# Altium integrated library ST Power Mgt Voltage Regulator.IntLib: 805 symbols (part 13 of 13)
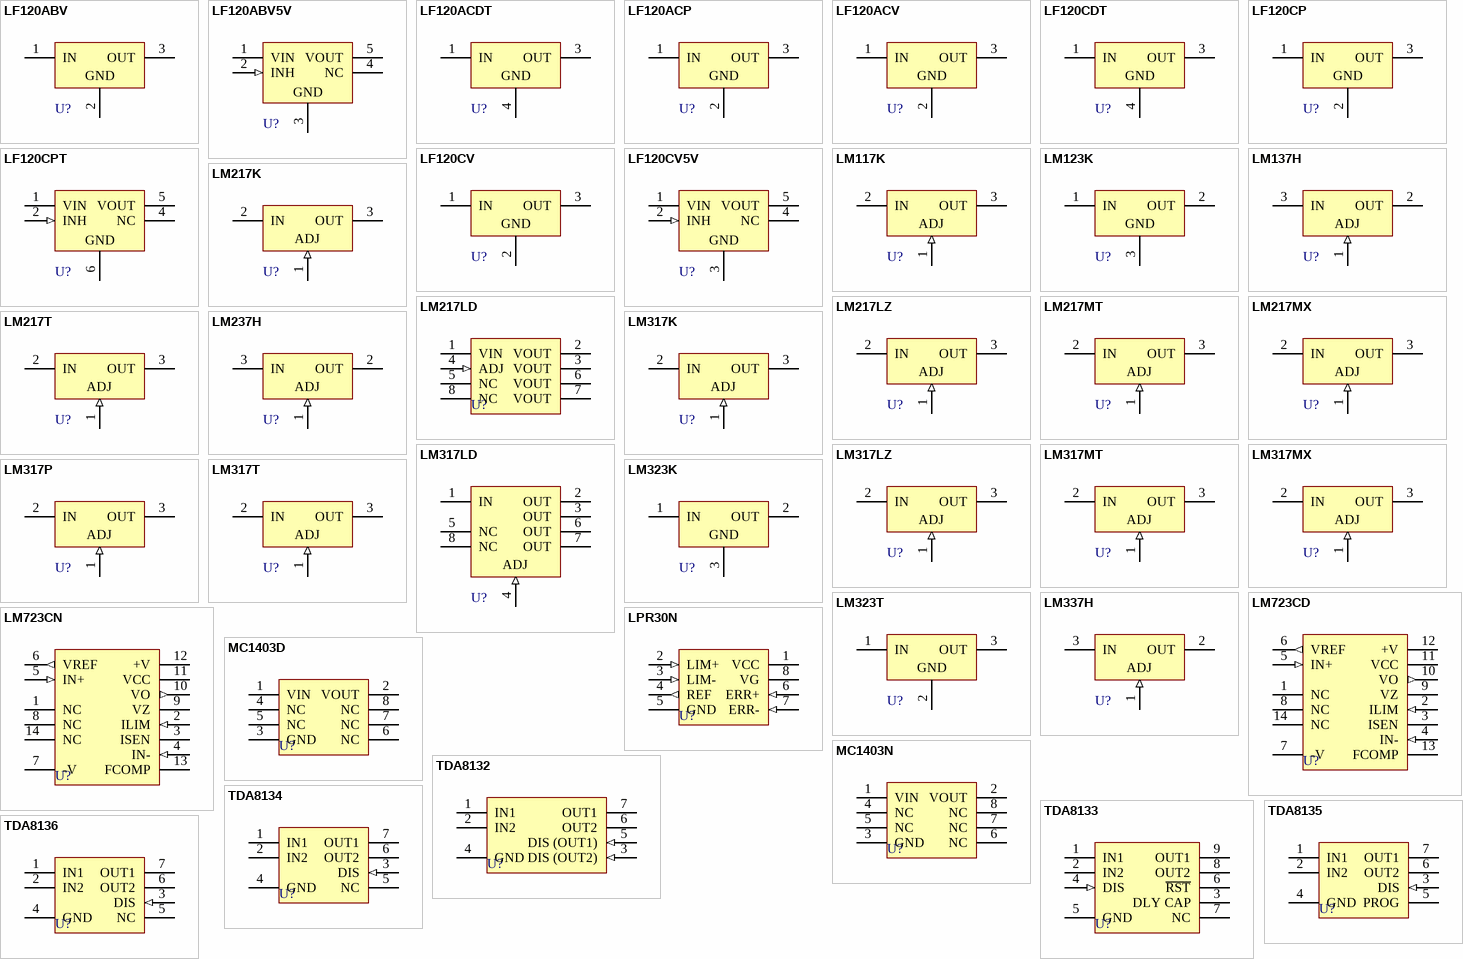
[diagram p32: symbols LF120ABV to TDA8136]

## LM317LD
designator U?
Low-Current 1.2V to 37V Voltage Regulator; Published: 24-Aug-2001; LatestRevisionDate: 13-Apr-2006; LatestRevisionNote: IPC-7351 Footprint Added.; DatasheetVersion: Apr-1994; PackageVersion: Dec-2002; PackageReference: SO8; Publisher: Altium Limited; PackageDescription: 8-Pin Small Outline Integrated Circuit 1.27 mm Pitch; Code_JEDEC: MS-012-AA; Code_IPC: SOIC127P600-8; ComponentLink1Description: Manufacturer Link; ComponentLink1URL: http://www.st.com/; ComponentLink2Description: Datasheet; ComponentLink2URL: http://www.st.com/stonline/products/literature/ds/2168/lm217l.pdf
footprint SO8_N (SOIC, 8-Leads, Body 4.9x3.9mm, Pitch 1.27mm, IPC Medium Density)
footprint SO8_L (SOIC, 8-Leads, Body 4.9x3.9mm, Pitch 1.27mm, IPC High Density)
footprint SO8_M (SOIC, 8-Leads, Body 4.9x3.9mm, Pitch 1.27mm, IPC Low Density)
3D model SO8 (8-Pin Small Outline Integrated Circuit 1.27 mm Pitch)
pins: 1 IN (power), 2 OUT (power), 3 OUT (power), 4 ADJ (in), 5 NC, 6 OUT (power), 7 OUT (power), 8 NC

## LM317LZ
designator U?
Low-Current 1.2V to 37V Voltage Regulator; Published: 24-Aug-2001; LatestRevisionDate: 17-Jul-2002; LatestRevisionNote: Re-released for DXP Platform.; DatasheetVersion: Apr-1994; PackageReference: TO92-132; Publisher: Altium Limited; PackageDescription: TO, Flat Index; 3 In-Line, Axial Leads; Body Dia. 4.8mm; Leads 0.51 x 0.51 mm (max); ComponentLink1Description: Manufacturer Link; ComponentLink1URL: http://www.st.com/; ComponentLink2Description: Datasheet; ComponentLink2URL: http://www.st.com/stonline/products/literature/ds/2168/lm217l.pdf
footprint TO92-132 (TO, Flat Index; 3 In-Line, Axial Leads; Body Dia. 4.8mm; Leads 0.51 x 0.51 mm (max))
pins: 1 ADJ (in), 2 IN (power), 3 OUT (power)

## LM317MT
designator U?
Medium Current 1.2V to 37V Adjustable Voltage Regulator; Note: Tab is connected to pin 3 (OUT).; Published: 24-Aug-2001; LatestRevisionDate: 17-Jul-2002; LatestRevisionNote: Re-released for DXP Platform.; DatasheetVersion: Sep-1997; PackageReference: TO220V; Publisher: Altium Limited; PackageDescription: TO, Thru-Hole, Vertical, Heatsink Mounted; 3 In-Line Leads; Pitch 2.54 mm; Pin sequence 1, 3, 2; ComponentLink1Description: Manufacturer Link; ComponentLink1URL: http://www.st.com/; ComponentLink2Description: Datasheet; ComponentLink2URL: http://www.st.com/stonline/products/literature/ds/2577/lm217m.pdf
footprint TO220V (TO, Thru-Hole, Vertical, Heatsink Mounted; 3 In-Line Leads; Pitch 2.54 mm; Pin sequence 1, 3, 2)
pins: 1 ADJ (in), 2 IN (power), 3 OUT (power)

## LM317MX
designator U?
Medium Current 1.2V to 37V Adjustable Voltage Regulator; Published: 24-Aug-2001; LatestRevisionDate: 17-Jul-2002; LatestRevisionNote: Re-released for DXP Platform.; DatasheetVersion: Sep-1997; PackageReference: SOT82C; Publisher: Altium Limited; PackageDescription: SIP; 3 Leads; Body 10.9 x 7.6 x 2.6 mm (typ); Pitch 2.2 mm; ComponentLink1Description: Manufacturer Link; ComponentLink1URL: http://www.st.com/; ComponentLink2Description: Datasheet; ComponentLink2URL: http://www.st.com/stonline/products/literature/ds/2577/lm217m.pdf
footprint SOT82C (SIP; 3 Leads; Body 10.9 x 7.6 x 2.6 mm (typ); Pitch 2.2 mm)
pins: 1 ADJ (in), 2 IN (power), 3 OUT (power)

## LM317P
designator U?
1.2V to 37V Voltage Regulator; Note: Tab is connected to pin 3 (OUT).; Published: 24-Aug-2001; LatestRevisionDate: 17-Jul-2002; LatestRevisionNote: Re-released for DXP Platform.; DatasheetVersion: Nov-1999; PackageVersion: Jul-1998; PackageReference: ISOWATT220AB; Publisher: Altium Limited; PackageDescription: TO, Thru-Hole, Vertical, Heatsink Mounted; 3 In-Line Leads; Pitch 2.54 mm; Pin sequence 1, 3, 2; ComponentLink1Description: Manufacturer Link; ComponentLink1URL: http://www.st.com/; ComponentLink2Description: Datasheet; ComponentLink2URL: http://www.st.com/stonline/products/literature/ds/2154/lm117.pdf
footprint ISOWATT220AB (TO, Thru-Hole, Vertical, Heatsink Mounted; 3 In-Line Leads; Pitch 2.54 mm; Pin sequence 1, 3, 2)
pins: 1 ADJ (in), 2 IN (power), 3 OUT (power)

## LM317T
designator U?
1.2V to 37V Voltage Regulator; Note: Tab is connected to pin 3 (OUT).; Published: 24-Aug-2001; LatestRevisionDate: 17-Jul-2002; LatestRevisionNote: Re-released for DXP Platform.; DatasheetVersion: Nov-1999; PackageVersion: Jun-1998; PackageReference: TO220ABN; Publisher: Altium Limited; PackageDescription: TO, Thru-Hole, Vertical, Heatsink Mounted; 3 In-Line Leads; Pitch 2.54 mm; Pin sequence 1, 3, 2; ComponentLink1Description: Manufacturer Link; ComponentLink1URL: http://www.st.com/; ComponentLink2Description: Datasheet; ComponentLink2URL: http://www.st.com/stonline/products/literature/ds/2154/lm117.pdf
footprint TO220ABN (TO, Thru-Hole, Vertical, Heatsink Mounted; 3 In-Line Leads; Pitch 2.54 mm; Pin sequence 1, 3, 2)
pins: 1 ADJ (in), 2 IN (power), 3 OUT (power)

## LM323K
designator U?
Three Terminal 3A-5V Positive Voltage Regulator; Note: Case is GND.; Published: 24-Aug-2001; LatestRevisionDate: 17-Jul-2002; LatestRevisionNote: Re-released for DXP Platform.; DatasheetVersion: Mar-1993; PackageReference: TO-3; Publisher: Altium Limited; PackageDescription: Oval Flange Mount with (2) Offset Leads; Pin Spacing 10.92 mm; Lead Dia. 1.15 mm (max); ComponentLink1Description: Manufacturer Link; ComponentLink1URL: http://www.st.com/
footprint TO-3 (Oval Flange Mount with (2) Offset Leads; Pin Spacing 10.92 mm; Lead Dia. 1.15 mm (max))
pins: 1 IN (power), 2 OUT (power), 3 GND (power)

## LM323T
designator U?
Three Terminal 3A-5V Positive Voltage Regulator; Published: 24-Aug-2001; LatestRevisionDate: 17-Jul-2002; LatestRevisionNote: Re-released for DXP Platform.; DatasheetVersion: Mar-1993; PackageVersion: Jun-1998; PackageReference: TO220ABN; Publisher: Altium Limited; PackageDescription: TO, Thru-Hole, Vertical, Heatsink Mounted; 3 In-Line Leads; Pitch 2.54 mm; Pin sequence 1, 3, 2; ComponentLink1Description: Manufacturer Link; ComponentLink1URL: http://www.st.com/
footprint TO220ABN (TO, Thru-Hole, Vertical, Heatsink Mounted; 3 In-Line Leads; Pitch 2.54 mm; Pin sequence 1, 3, 2)
pins: 1 IN (power), 2 GND (power), 3 OUT (power)

## LM337H
designator U?
Three-Terminal Adjustable Negative Voltage Regulator; Published: 24-Aug-2001; LatestRevisionDate: 17-Jul-2002; LatestRevisionNote: Re-released for DXP Platform.; DatasheetVersion: Mar-1993; PackageReference: TO-39; Publisher: Altium Limited; PackageDescription: Can; 3 Leads; Pin Circle Dia. 5.08 mm; Lead Dia. 0.49 mm (max); ComponentLink1Description: Manufacturer Link; ComponentLink1URL: http://www.st.com/; ComponentLink2Description: Datasheet; ComponentLink2URL: http://www.st.com/stonline/products/literature/ds/2167/lm137.pdf
footprint TO-39 (Can; 3 Leads; Pin Circle Dia. 5.08 mm; Lead Dia. 0.49 mm (max))
pins: 1 ADJ (in), 2 OUT (power), 3 IN (power)

## LM723CD
designator U?
High-Precision Voltage Regulator; Published: 24-Aug-2001; LatestRevisionDate: 13-Apr-2006; LatestRevisionNote: IPC-7351 Footprint Added.; DatasheetVersion: Sep-1998; PackageVersion: Sep-1998; PackageReference: SO14; Publisher: Altium Limited; PackageDescription: 14-Pin Small Outline Integrated Circuit 1.27 mm Pitch; Code_IPC: SOIC127P600-14; ComponentLink1Description: Manufacturer Link; ComponentLink1URL: http://www.st.com/; ComponentLink2Description: Datasheet; ComponentLink2URL: http://www.st.com/stonline/products/literature/ds/4553/lm723.pdf
footprint SO14_N (SOIC, 14-Leads, Body 8.7x3.9mm, Pitch 1.27mm, IPC Medium Density)
footprint SO14_L (SOIC, 14-Leads, Body 8.7x3.9mm, Pitch 1.27mm, IPC High Density)
footprint SO14_M (SOIC, 14-Leads, Body 8.7x3.9mm, Pitch 1.27mm, IPC Low Density)
3D model SO14 (14-Pin Small Outline Integrated Circuit 1.27 mm Pitch)
pins: 1 NC, 2 ILIM (in), 3 ISEN, 4 IN- (in), 5 IN+ (in), 6 VREF (out), 7 -V (power), 8 NC, 9 VZ, 10 VO (out), 11 VCC (power), 12 +V (power), 13 FCOMP, 14 NC

## LM723CN
designator U?
High-Precision Voltage Regulator; Published: 24-Aug-2001; LatestRevisionDate: 06-Jun-2005; LatestRevisionNote: Stylized 3D Model Added.; DatasheetVersion: Sep-1998; PackageVersion: Jan-1997; PackageReference: DIP14; Publisher: Altium Limited; PackageDescription: DIP; 14 Leads; Row Spacing 7.62 mm; Pitch 2.54 mm; ComponentLink1Description: Manufacturer Link; ComponentLink1URL: http://www.st.com/; ComponentLink2Description: Datasheet; ComponentLink2URL: http://www.st.com/stonline/products/literature/ds/4553/lm723.pdf
footprint DIP14 (DIP; 14 Leads; Row Spacing 7.62 mm; Pitch 2.54 mm)
3D model DIP14 (DIP; 14 Leads; Row Spacing 7.62 mm; Pitch 2.54 mm)
pins: 1 NC, 2 ILIM (in), 3 ISEN, 4 IN- (in), 5 IN+ (in), 6 VREF (out), 7 -V (power), 8 NC, 9 VZ, 10 VO (out), 11 VCC (power), 12 +V (power), 13 FCOMP, 14 NC

## LPR30N
designator U?
Low Drop Voltage Regulator Drive for External N-Channel Power MOSFET; Published: 24-Aug-2001; LatestRevisionDate: 17-Jul-2002; LatestRevisionNote: Re-released for DXP Platform.; DatasheetVersion: Jun-1997; PackageVersion: Sep-1988; PackageReference: MDIP8; Publisher: Altium Limited; PackageDescription: DIP; 8 Leads; Row Spacing 7.62 mm; Pitch 2.54 mm; ComponentLink1Description: Manufacturer Link; ComponentLink1URL: http://www.st.com/
footprint MDIP8 (DIP; 8 Leads; Row Spacing 7.62 mm; Pitch 2.54 mm)
pins: 1 VCC (power), 2 LIM+ (in), 3 LIM- (in), 4 REF (out), 5 GND (power), 6 ERR+ (in), 7 ERR- (in), 8 VG (oc)

## MC1403D
designator U?
2.5V Precision Serial Voltage Refrence; Published: 24-Aug-2001; LatestRevisionDate: 13-Apr-2006; LatestRevisionNote: IPC-7351 Footprint Added.; DatasheetVersion: Oct-1997; PackageVersion: Dec-2002; PackageReference: SO8; Publisher: Altium Limited; PackageDescription: 8-Pin Small Outline Integrated Circuit 1.27 mm Pitch; Code_JEDEC: MS-012-AA; Code_IPC: SOIC127P600-8; ComponentLink1Description: Manufacturer Link; ComponentLink1URL: http://www.st.com/; ComponentLink2Description: Datasheet; ComponentLink2URL: http://www.st.com/stonline/products/literature/ds/4026/mc1403.pdf
footprint SO8_N (SOIC, 8-Leads, Body 4.9x3.9mm, Pitch 1.27mm, IPC Medium Density)
footprint SO8_L (SOIC, 8-Leads, Body 4.9x3.9mm, Pitch 1.27mm, IPC High Density)
footprint SO8_M (SOIC, 8-Leads, Body 4.9x3.9mm, Pitch 1.27mm, IPC Low Density)
3D model SO8 (8-Pin Small Outline Integrated Circuit 1.27 mm Pitch)
pins: 1 VIN (power), 2 VOUT (power), 3 GND (power), 4 NC, 5 NC, 6 NC, 7 NC, 8 NC

## MC1403N
designator U?
2.5V Precision Serial Voltage Refrence; Published: 24-Aug-2001; LatestRevisionDate: 06-Jun-2005; LatestRevisionNote: Stylized 3D Model Added.; DatasheetVersion: Oct-1997; PackageReference: DIP8; Publisher: Altium Limited; PackageDescription: DIP; 8 Leads; Row Spacing 7.62 mm; Pitch 2.54 mm; Code_JEDEC: MO-001-AN; ComponentLink1Description: Manufacturer Link; ComponentLink1URL: http://www.st.com/; ComponentLink2Description: Datasheet; ComponentLink2URL: http://www.st.com/stonline/products/literature/ds/4026/mc1403.pdf
footprint DIP8 (DIP; 8 Leads; Row Spacing 7.62 mm; Pitch 2.54 mm)
3D model DIP8 (DIP; 8 Leads; Row Spacing 7.62 mm; Pitch 2.54 mm)
pins: 1 VIN (power), 2 VOUT (power), 3 GND (power), 4 NC, 5 NC, 6 NC, 7 NC, 8 NC

## TDA8132
designator U?
5.1V + 12V Disable Voltage regulator; Note: Tab is connected to pin 4 (GND).; Published: 24-Aug-2001; LatestRevisionDate: 17-Jul-2002; LatestRevisionNote: Re-released for DXP Platform.; DatasheetVersion: Jan-1996; PackageVersion: Jan-1995; PackageReference: HEPTAWATT7; Publisher: Altium Limited; PackageDescription: TO, Thru-Hole, Vertical, Heatsink Mounted; 7 Bent Staggered Leads; Pitch 1.27 mm; ComponentLink1Description: Manufacturer Link; ComponentLink1URL: http://www.st.com/
footprint HEPTAWATT7 (TO, Thru-Hole, Vertical, Heatsink Mounted; 7 Bent Staggered Leads; Pitch 1.27 mm)
pins: 1 IN1 (power), 2 IN2 (power), 3 DIS (OUT2) (in), 4 GND (power), 5 DIS (OUT1) (in), 6 OUT2 (power), 7 OUT1 (power)

## TDA8133
designator U?
5.1V + 8V Regulator with Disable and Reset; Note: Tab is connected to pin 5 (GND).; Published: 24-Aug-2001; LatestRevisionDate: 17-Jul-2002; LatestRevisionNote: Re-released for DXP Platform.; DatasheetVersion: Mar-1994; PackageVersion: Oct-1997; PackageReference: SIP9; Publisher: Altium Limited; PackageDescription: TO, Thru-Hole, Vertical, Heatsink Mounted; 9 In-Line Leads; Pitch 2.54 mm; ComponentLink1Description: Manufacturer Link; ComponentLink1URL: http://www.st.com/; ComponentLink2Description: Datasheet; ComponentLink2URL: http://www.st.com/stonline/products/literature/ds/9784/tda8133.pdf
footprint SIP9 (TO, Thru-Hole, Vertical, Heatsink Mounted; 9 In-Line Leads; Pitch 2.54 mm)
pins: 1 IN1 (power), 2 IN2 (power), 3 DLY CAP, 4 DIS (in), 5 GND (power), 6 ~{RST} (oc), 7 NC, 8 OUT2 (power), 9 OUT1 (power)

## TDA8134
designator U?
5V +12V Regulator with Disable; Note: Tab is connected to pin 4 (GND).; Published: 24-Aug-2001; LatestRevisionDate: 17-Jul-2002; LatestRevisionNote: Re-released for DXP Platform.; DatasheetVersion: Sep-1993; PackageVersion: Jan-1995; PackageReference: HEPTAWATT7; Publisher: Altium Limited; PackageDescription: TO, Thru-Hole, Vertical, Heatsink Mounted; 7 Bent Staggered Leads; Pitch 1.27 mm; ComponentLink1Description: Manufacturer Link; ComponentLink1URL: http://www.st.com/
footprint HEPTAWATT7 (TO, Thru-Hole, Vertical, Heatsink Mounted; 7 Bent Staggered Leads; Pitch 1.27 mm)
pins: 1 IN1 (power), 2 IN2 (power), 3 DIS (in), 4 GND (power), 5 NC, 6 OUT2 (power), 7 OUT1 (power)

## TDA8135
designator U?
5V +Adjustable Voltage Regulator with Disable; Note: Tab is connected to pin 4 (GND).; Published: 24-Aug-2001; LatestRevisionDate: 17-Jul-2002; LatestRevisionNote: Re-released for DXP Platform.; DatasheetVersion: Sep-1993; PackageVersion: Jan-1995; PackageReference: HEPTAWATT7; Publisher: Altium Limited; PackageDescription: TO, Thru-Hole, Vertical, Heatsink Mounted; 7 Bent Staggered Leads; Pitch 1.27 mm; ComponentLink1Description: Manufacturer Link; ComponentLink1URL: http://www.st.com/
footprint HEPTAWATT7 (TO, Thru-Hole, Vertical, Heatsink Mounted; 7 Bent Staggered Leads; Pitch 1.27 mm)
pins: 1 IN1 (power), 2 IN2 (power), 3 DIS (in), 4 GND (power), 5 PROG, 6 OUT2 (power), 7 OUT1 (power)

## TDA8136
designator U?
Dual 12V Regulator with Disable; Note: Tab is connected to pin 4 (GND).; Published: 24-Aug-2001; LatestRevisionDate: 17-Jul-2002; LatestRevisionNote: Re-released for DXP Platform.; DatasheetVersion: Sep-1993; PackageVersion: Jan-1995; PackageReference: HEPTAWATT7; Publisher: Altium Limited; PackageDescription: TO, Thru-Hole, Vertical, Heatsink Mounted; 7 Bent Staggered Leads; Pitch 1.27 mm; ComponentLink1Description: Manufacturer Link; ComponentLink1URL: http://www.st.com/
footprint HEPTAWATT7 (TO, Thru-Hole, Vertical, Heatsink Mounted; 7 Bent Staggered Leads; Pitch 1.27 mm)
pins: 1 IN1 (power), 2 IN2 (power), 3 DIS (in), 4 GND (power), 5 NC, 6 OUT2 (power), 7 OUT1 (power)

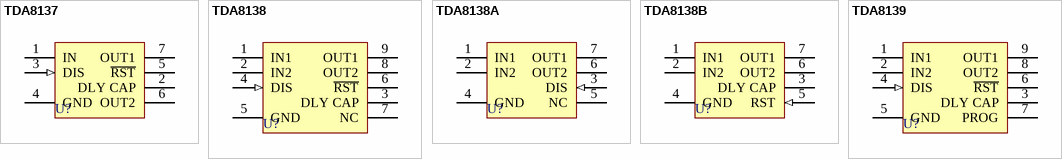
[diagram p20: symbols TDA8137 to TDA8139]

## TDA8137
designator U?
Dual 5.1V Regulator with Disable and Reset; Note: Tab is connected to pin 4 (GND).; Published: 24-Aug-2001; LatestRevisionDate: 17-Jul-2002; LatestRevisionNote: Re-released for DXP Platform.; DatasheetVersion: Sep-1993; PackageVersion: Jan-1995; PackageReference: HEPTAWATT7; Publisher: Altium Limited; PackageDescription: TO, Thru-Hole, Vertical, Heatsink Mounted; 7 Bent Staggered Leads; Pitch 1.27 mm; ComponentLink1Description: Manufacturer Link; ComponentLink1URL: http://www.st.com/
footprint HEPTAWATT7 (TO, Thru-Hole, Vertical, Heatsink Mounted; 7 Bent Staggered Leads; Pitch 1.27 mm)
pins: 1 IN (power), 2 DLY CAP, 3 DIS (in), 4 GND (power), 5 ~{RST} (oc), 6 OUT2 (power), 7 OUT1 (power)

## TDA8138
designator U?
5.1V + 12V Regulator with Disable and Reset; Note: Tab is connected to pin 5 (GND).; Published: 24-Aug-2001; LatestRevisionDate: 17-Jul-2002; LatestRevisionNote: Re-released for DXP Platform.; DatasheetVersion: May-1993; PackageVersion: Oct-1997; PackageReference: SIP9; Publisher: Altium Limited; PackageDescription: TO, Thru-Hole, Vertical, Heatsink Mounted; 9 In-Line Leads; Pitch 2.54 mm; ComponentLink1Description: Manufacturer Link; ComponentLink1URL: http://www.st.com/
footprint SIP9 (TO, Thru-Hole, Vertical, Heatsink Mounted; 9 In-Line Leads; Pitch 2.54 mm)
pins: 1 IN1 (power), 2 IN2 (power), 3 DLY CAP, 4 DIS (in), 5 GND (power), 6 ~{RST} (oc), 7 NC, 8 OUT2 (power), 9 OUT1 (power)

## TDA8138A
designator U?
5.1V + 12V Regulator with Disable and Reset; Note: Tab is connected to pin 4 (GND).; Published: 24-Aug-2001; LatestRevisionDate: 17-Jul-2002; LatestRevisionNote: Re-released for DXP Platform.; DatasheetVersion: May-1993; PackageVersion: Jan-1995; PackageReference: HEPTAWATT7; Publisher: Altium Limited; PackageDescription: TO, Thru-Hole, Vertical, Heatsink Mounted; 7 Bent Staggered Leads; Pitch 1.27 mm; ComponentLink1Description: Manufacturer Link; ComponentLink1URL: http://www.st.com/
footprint HEPTAWATT7 (TO, Thru-Hole, Vertical, Heatsink Mounted; 7 Bent Staggered Leads; Pitch 1.27 mm)
pins: 1 IN1 (power), 2 IN2 (power), 3 DIS (in), 4 GND (power), 5 NC, 6 OUT2 (power), 7 OUT1 (power)

## TDA8138B
designator U?
5.1V + 12V Regulator with Disable and Reset; Note: Tab is connected to pin 4 (GND).; Published: 24-Aug-2001; LatestRevisionDate: 17-Jul-2002; LatestRevisionNote: Re-released for DXP Platform.; DatasheetVersion: May-1993; PackageVersion: Jan-1995; PackageReference: HEPTAWATT7; Publisher: Altium Limited; PackageDescription: TO, Thru-Hole, Vertical, Heatsink Mounted; 7 Bent Staggered Leads; Pitch 1.27 mm; ComponentLink1Description: Manufacturer Link; ComponentLink1URL: http://www.st.com/
footprint HEPTAWATT7 (TO, Thru-Hole, Vertical, Heatsink Mounted; 7 Bent Staggered Leads; Pitch 1.27 mm)
pins: 1 IN1 (power), 2 IN2 (power), 3 DLY CAP, 4 GND (power), 5 RST (in), 6 OUT2 (power), 7 OUT1 (power)

## TDA8139
designator U?
5.1V and Adjustable Voltage Regulator with Disable and Reset; Note: Tab is connected to pin 5 (GND).; Published: 24-Aug-2001; LatestRevisionDate: 17-Jul-2002; LatestRevisionNote: Re-released for DXP Platform.; DatasheetVersion: Sep-1993; PackageVersion: Oct-1997; PackageReference: SIP9; Publisher: Altium Limited; PackageDescription: TO, Thru-Hole, Vertical, Heatsink Mounted; 9 In-Line Leads; Pitch 2.54 mm; ComponentLink1Description: Manufacturer Link; ComponentLink1URL: http://www.st.com/; ComponentLink2Description: Datasheet; ComponentLink2URL: http://www.st.com/stonline/products/literature/ds/9785/tda8139.pdf
footprint SIP9 (TO, Thru-Hole, Vertical, Heatsink Mounted; 9 In-Line Leads; Pitch 2.54 mm)
pins: 1 IN1 (power), 2 IN2 (power), 3 DLY CAP, 4 DIS (in), 5 GND (power), 6 ~{RST} (oc), 7 PROG, 8 OUT2 (power), 9 OUT1 (power)